# EAGLE library part EP4CE6F17 (library altera-cyclone)
EP4CE6F17 edit this description Auto generated by make-symbol-device-package-bsdl.ulp Rev. 43 Source: EP4CE6F17.bsdl Connect-List generated from IS.DEV Variant X with split-device-symbol.ulp
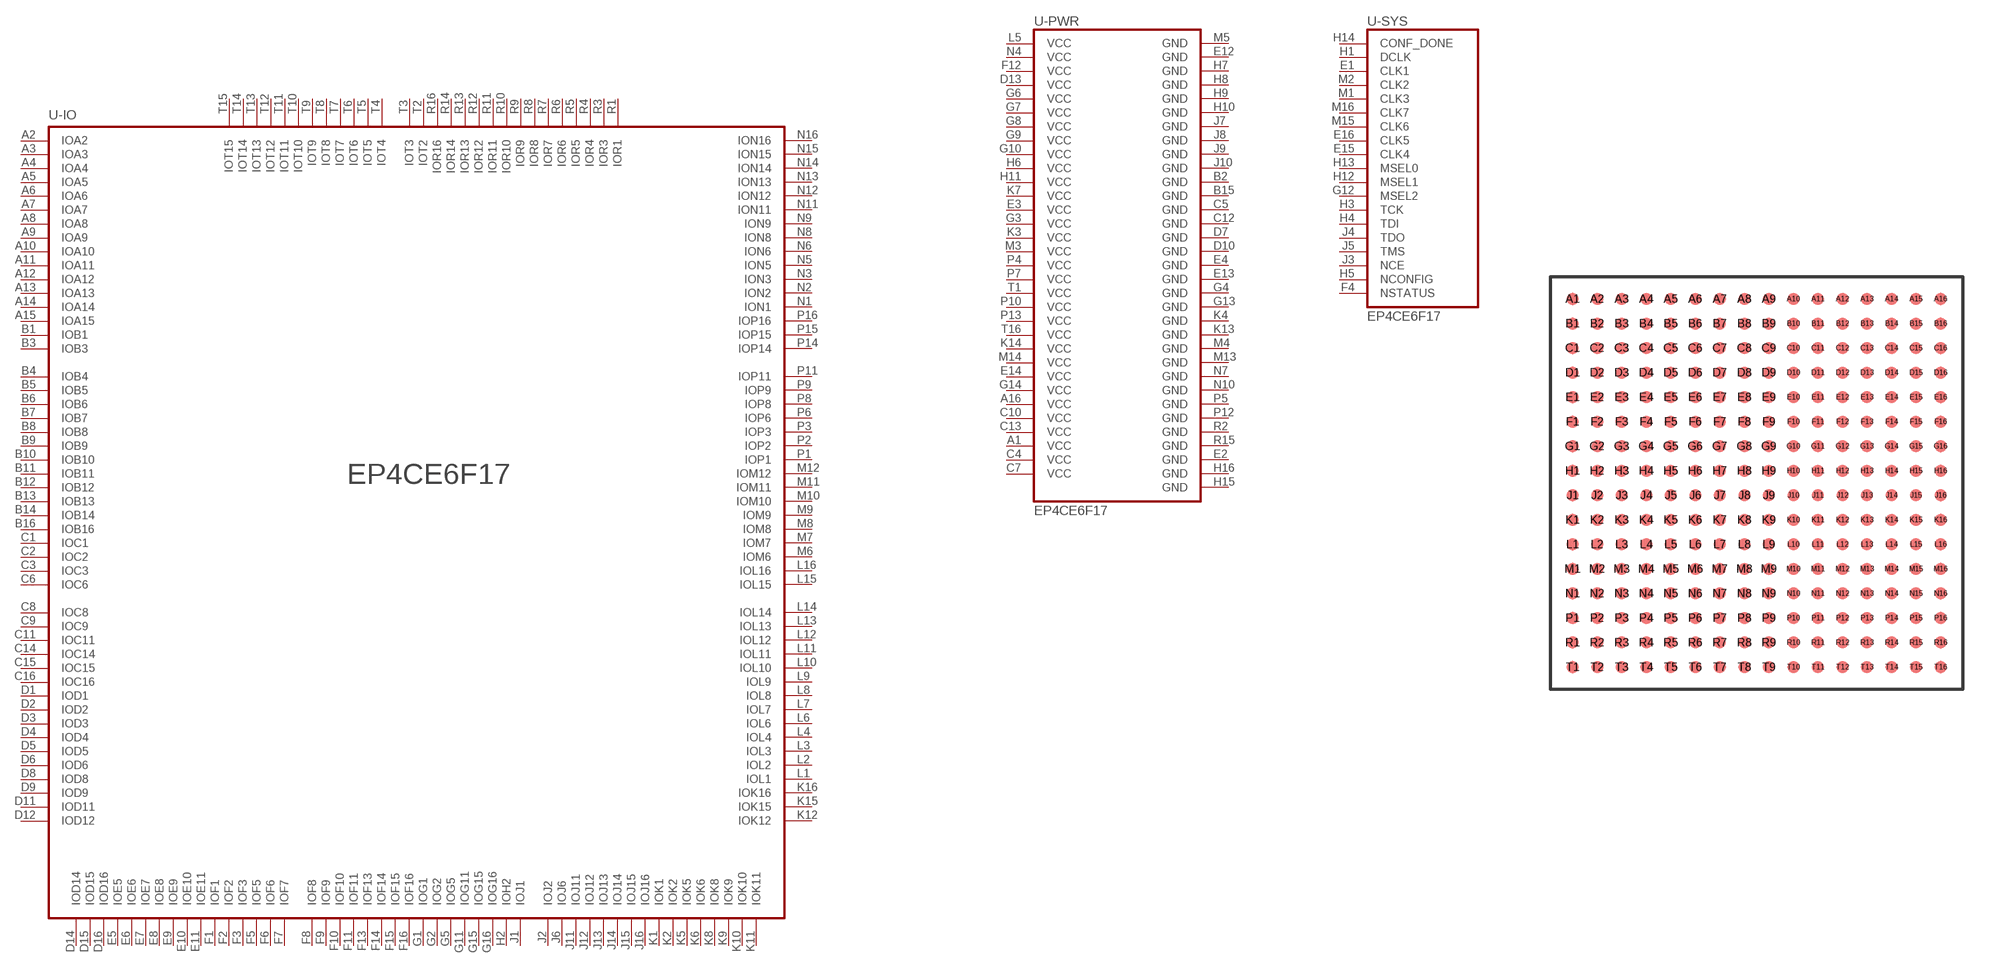
[diagram p3: symbol with the pads of FBGA256; footprint FBGA256]

Designator prefix U; gates -IO=EP4CE6F17_IO -PWR=EP4CE6F17_PWR -SYS=EP4CE6F17_SYS

## EP4CE6F17 (P1I: o)  [FBGA256]
A1  -PWR:VCC  pwr
A2  -IO:IOA2
A3  -IO:IOA3
A4  -IO:IOA4
A5  -IO:IOA5
A6  -IO:IOA6
A7  -IO:IOA7
A8  -IO:IOA8
A9  -IO:IOA9
A10  -IO:IOA10
A11  -IO:IOA11
A12  -IO:IOA12
A13  -IO:IOA13
A14  -IO:IOA14
A15  -IO:IOA15
A16  -PWR:VCC  pwr
B1  -IO:IOB1
B2  -PWR:GND  pwr
B3  -IO:IOB3
B4  -IO:IOB4
B5  -IO:IOB5
B6  -IO:IOB6
B7  -IO:IOB7
B8  -IO:IOB8
B9  -IO:IOB9
B10  -IO:IOB10
B11  -IO:IOB11
B12  -IO:IOB12
B13  -IO:IOB13
B14  -IO:IOB14
B15  -PWR:GND  pwr
B16  -IO:IOB16
C1  -IO:IOC1
C2  -IO:IOC2
C3  -IO:IOC3
C4  -PWR:VCC  pwr
C5  -PWR:GND  pwr
C6  -IO:IOC6
C7  -PWR:VCC  pwr
C8  -IO:IOC8
C9  -IO:IOC9
C10  -PWR:VCC  pwr
C11  -IO:IOC11
C12  -PWR:GND  pwr
C13  -PWR:VCC  pwr
C14  -IO:IOC14
C15  -IO:IOC15
C16  -IO:IOC16
D1  -IO:IOD1
D2  -IO:IOD2
D3  -IO:IOD3
D4  -IO:IOD4
D5  -IO:IOD5
D6  -IO:IOD6
D7  -PWR:GND  pwr
D8  -IO:IOD8
D9  -IO:IOD9
D10  -PWR:GND  pwr
D11  -IO:IOD11
D12  -IO:IOD12
D13  -PWR:VCC  pwr
D14  -IO:IOD14
D15  -IO:IOD15
D16  -IO:IOD16
E1  -SYS:CLK1  pas
E2  -PWR:GND  pwr
E3  -PWR:VCC  pwr
E4  -PWR:GND  pwr
E5  -IO:IOE5
E6  -IO:IOE6
E7  -IO:IOE7
E8  -IO:IOE8
E9  -IO:IOE9
E10  -IO:IOE10
E11  -IO:IOE11
E12  -PWR:GND  pwr
E13  -PWR:GND  pwr
E14  -PWR:VCC  pwr
E15  -SYS:CLK4  pas
E16  -SYS:CLK5  pas
F1  -IO:IOF1
F2  -IO:IOF2
F3  -IO:IOF3
F4  -SYS:NSTATUS  pas
F5  -IO:IOF5
F6  -IO:IOF6
F7  -IO:IOF7
F8  -IO:IOF8
F9  -IO:IOF9
F10  -IO:IOF10
F11  -IO:IOF11
F12  -PWR:VCC  pwr
F13  -IO:IOF13
F14  -IO:IOF14
F15  -IO:IOF15
F16  -IO:IOF16
G1  -IO:IOG1
G2  -IO:IOG2
G3  -PWR:VCC  pwr
G4  -PWR:GND  pwr
G5  -IO:IOG5
G6  -PWR:VCC  pwr
G7  -PWR:VCC  pwr
G8  -PWR:VCC  pwr
G9  -PWR:VCC  pwr
G10  -PWR:VCC  pwr
G11  -IO:IOG11
G12  -SYS:MSEL2  in
G13  -PWR:GND  pwr
G14  -PWR:VCC  pwr
G15  -IO:IOG15
G16  -IO:IOG16
H1  -SYS:DCLK  pas
H2  -IO:IOH2
H3  -SYS:TCK  in
H4  -SYS:TDI  in
H5  -SYS:NCONFIG  pas
H6  -PWR:VCC  pwr
H7  -PWR:GND  pwr
H8  -PWR:GND  pwr
H9  -PWR:GND  pwr
H10  -PWR:GND  pwr
H11  -PWR:VCC  pwr
H12  -SYS:MSEL1  in
H13  -SYS:MSEL0  in
H14  -SYS:CONF_DONE  pas
H15  -PWR:GND  pwr
H16  -PWR:GND  pwr
J1  -IO:IOJ1
J2  -IO:IOJ2
J3  -SYS:NCE  pas
J4  -SYS:TDO  out
J5  -SYS:TMS  in
J6  -IO:IOJ6
J7  -PWR:GND  pwr
J8  -PWR:GND  pwr
J9  -PWR:GND  pwr
J10  -PWR:GND  pwr
J11  -IO:IOJ11
J12  -IO:IOJ12
J13  -IO:IOJ13
J14  -IO:IOJ14
J15  -IO:IOJ15
J16  -IO:IOJ16
K1  -IO:IOK1
K2  -IO:IOK2
K3  -PWR:VCC  pwr
K4  -PWR:GND  pwr
K5  -IO:IOK5
K6  -IO:IOK6
K7  -PWR:VCC  pwr
K8  -IO:IOK8
K9  -IO:IOK9
K10  -IO:IOK10
K11  -IO:IOK11
K12  -IO:IOK12
K13  -PWR:GND  pwr
K14  -PWR:VCC  pwr
K15  -IO:IOK15
K16  -IO:IOK16
L1  -IO:IOL1
L2  -IO:IOL2
L3  -IO:IOL3
L4  -IO:IOL4
L5  -PWR:VCC  pwr
L6  -IO:IOL6
L7  -IO:IOL7
L8  -IO:IOL8
L9  -IO:IOL9
L10  -IO:IOL10
L11  -IO:IOL11
L12  -IO:IOL12
L13  -IO:IOL13
L14  -IO:IOL14
L15  -IO:IOL15
L16  -IO:IOL16
M1  -SYS:CLK3  pas
M2  -SYS:CLK2  pas
M3  -PWR:VCC  pwr
M4  -PWR:GND  pwr
M5  -PWR:GND  pwr
M6  -IO:IOM6
M7  -IO:IOM7
M8  -IO:IOM8
M9  -IO:IOM9
M10  -IO:IOM10
M11  -IO:IOM11
M12  -IO:IOM12
M13  -PWR:GND  pwr
M14  -PWR:VCC  pwr
M15  -SYS:CLK6  pas
M16  -SYS:CLK7  pas
N1  -IO:ION1
N2  -IO:ION2
N3  -IO:ION3
N4  -PWR:VCC  pwr
N5  -IO:ION5
N6  -IO:ION6
N7  -PWR:GND  pwr
N8  -IO:ION8
N9  -IO:ION9
N10  -PWR:GND  pwr
N11  -IO:ION11
N12  -IO:ION12
N13  -IO:ION13
N14  -IO:ION14
N15  -IO:ION15
N16  -IO:ION16
P1  -IO:IOP1
P2  -IO:IOP2
P3  -IO:IOP3
P4  -PWR:VCC  pwr
P5  -PWR:GND  pwr
P6  -IO:IOP6
P7  -PWR:VCC  pwr
P8  -IO:IOP8
P9  -IO:IOP9
P10  -PWR:VCC  pwr
P11  -IO:IOP11
P12  -PWR:GND  pwr
P13  -PWR:VCC  pwr
P14  -IO:IOP14
P15  -IO:IOP15
P16  -IO:IOP16
R1  -IO:IOR1
R2  -PWR:GND  pwr
R3  -IO:IOR3
R4  -IO:IOR4
R5  -IO:IOR5
R6  -IO:IOR6
R7  -IO:IOR7
R8  -IO:IOR8
R9  -IO:IOR9
R10  -IO:IOR10
R11  -IO:IOR11
R12  -IO:IOR12
R13  -IO:IOR13
R14  -IO:IOR14
R15  -PWR:GND  pwr
R16  -IO:IOR16
T1  -PWR:VCC  pwr
T2  -IO:IOT2
T3  -IO:IOT3
T4  -IO:IOT4
T5  -IO:IOT5
T6  -IO:IOT6
T7  -IO:IOT7
T8  -IO:IOT8
T9  -IO:IOT9
T10  -IO:IOT10
T11  -IO:IOT11
T12  -IO:IOT12
T13  -IO:IOT13
T14  -IO:IOT14
T15  -IO:IOT15
T16  -PWR:VCC  pwr

## Footprint FBGA256 (pad centres in mm)
EP4CE6F17 edit this description Auto generated by make-symbol-device-package-bsdl.ulp Rev. 43 Source: EP4CE6F17.bsdl
smd 0.5 x 0.5: A1 -7.5,7.5; A2 -6.5,7.5; A3 -5.5,7.5; A4 -4.5,7.5; A5 -3.5,7.5; A6 -2.5,7.5; A7 -1.5,7.5; A8 -0.5,7.5; A9 0.5,7.5; A10 1.5,7.5; A11 2.5,7.5; A12 3.5,7.5; A13 4.5,7.5; A14 5.5,7.5; A15 6.5,7.5; A16 7.5,7.5; B1 -7.5,6.5; B2 -6.5,6.5; B3 -5.5,6.5; B4 -4.5,6.5; B5 -3.5,6.5; B6 -2.5,6.5; B7 -1.5,6.5; B8 -0.5,6.5; B9 0.5,6.5; B10 1.5,6.5; B11 2.5,6.5; B12 3.5,6.5; B13 4.5,6.5; B14 5.5,6.5; B15 6.5,6.5; B16 7.5,6.5; C1 -7.5,5.5; C2 -6.5,5.5; C3 -5.5,5.5; C4 -4.5,5.5; C5 -3.5,5.5; C6 -2.5,5.5; C7 -1.5,5.5; C8 -0.5,5.5; C9 0.5,5.5; C10 1.5,5.5; C11 2.5,5.5; C12 3.5,5.5; C13 4.5,5.5; C14 5.5,5.5; C15 6.5,5.5; C16 7.5,5.5; D1 -7.5,4.5; D2 -6.5,4.5; D3 -5.5,4.5; D4 -4.5,4.5; D5 -3.5,4.5; D6 -2.5,4.5; D7 -1.5,4.5; D8 -0.5,4.5; D9 0.5,4.5; D10 1.5,4.5; D11 2.5,4.5; D12 3.5,4.5; D13 4.5,4.5; D14 5.5,4.5; D15 6.5,4.5; D16 7.5,4.5; E1 -7.5,3.5; E2 -6.5,3.5; E3 -5.5,3.5; E4 -4.5,3.5; E5 -3.5,3.5; E6 -2.5,3.5; E7 -1.5,3.5; E8 -0.5,3.5; E9 0.5,3.5; E10 1.5,3.5; E11 2.5,3.5; E12 3.5,3.5; E13 4.5,3.5; E14 5.5,3.5; E15 6.5,3.5; E16 7.5,3.5; F1 -7.5,2.5; F2 -6.5,2.5; F3 -5.5,2.5; F4 -4.5,2.5; F5 -3.5,2.5; F6 -2.5,2.5; F7 -1.5,2.5; F8 -0.5,2.5; F9 0.5,2.5; F10 1.5,2.5; F11 2.5,2.5; F12 3.5,2.5; F13 4.5,2.5; F14 5.5,2.5; F15 6.5,2.5; F16 7.5,2.5; G1 -7.5,1.5; G2 -6.5,1.5; G3 -5.5,1.5; G4 -4.5,1.5; G5 -3.5,1.5; G6 -2.5,1.5; G7 -1.5,1.5; G8 -0.5,1.5; G9 0.5,1.5; G10 1.5,1.5; G11 2.5,1.5; G12 3.5,1.5; G13 4.5,1.5; G14 5.5,1.5; G15 6.5,1.5; G16 7.5,1.5; H1 -7.5,0.5; H2 -6.5,0.5; H3 -5.5,0.5; H4 -4.5,0.5; H5 -3.5,0.5; H6 -2.5,0.5; H7 -1.5,0.5; H8 -0.5,0.5; H9 0.5,0.5; H10 1.5,0.5; H11 2.5,0.5; H12 3.5,0.5; H13 4.5,0.5; H14 5.5,0.5; H15 6.5,0.5; H16 7.5,0.5; J1 -7.5,-0.5; J2 -6.5,-0.5; J3 -5.5,-0.5; J4 -4.5,-0.5; J5 -3.5,-0.5; J6 -2.5,-0.5; J7 -1.5,-0.5; J8 -0.5,-0.5; J9 0.5,-0.5; J10 1.5,-0.5; J11 2.5,-0.5; J12 3.5,-0.5; J13 4.5,-0.5; J14 5.5,-0.5; J15 6.5,-0.5; J16 7.5,-0.5; K1 -7.5,-1.5; K2 -6.5,-1.5; K3 -5.5,-1.5; K4 -4.5,-1.5; K5 -3.5,-1.5; K6 -2.5,-1.5; K7 -1.5,-1.5; K8 -0.5,-1.5; K9 0.5,-1.5; K10 1.5,-1.5; K11 2.5,-1.5; K12 3.5,-1.5; K13 4.5,-1.5; K14 5.5,-1.5; K15 6.5,-1.5; K16 7.5,-1.5; L1 -7.5,-2.5; L2 -6.5,-2.5; L3 -5.5,-2.5; L4 -4.5,-2.5; L5 -3.5,-2.5; L6 -2.5,-2.5; L7 -1.5,-2.5; L8 -0.5,-2.5; L9 0.5,-2.5; L10 1.5,-2.5; L11 2.5,-2.5; L12 3.5,-2.5; L13 4.5,-2.5; L14 5.5,-2.5; L15 6.5,-2.5; L16 7.5,-2.5; M1 -7.5,-3.5; M2 -6.5,-3.5; M3 -5.5,-3.5; M4 -4.5,-3.5; M5 -3.5,-3.5; M6 -2.5,-3.5; M7 -1.5,-3.5; M8 -0.5,-3.5; M9 0.5,-3.5; M10 1.5,-3.5; M11 2.5,-3.5; M12 3.5,-3.5; M13 4.5,-3.5; M14 5.5,-3.5; M15 6.5,-3.5; M16 7.5,-3.5; N1 -7.5,-4.5; N2 -6.5,-4.5; N3 -5.5,-4.5; N4 -4.5,-4.5; N5 -3.5,-4.5; N6 -2.5,-4.5; N7 -1.5,-4.5; N8 -0.5,-4.5; N9 0.5,-4.5; N10 1.5,-4.5; N11 2.5,-4.5; N12 3.5,-4.5; N13 4.5,-4.5; N14 5.5,-4.5; N15 6.5,-4.5; N16 7.5,-4.5; P1 -7.5,-5.5; P2 -6.5,-5.5; P3 -5.5,-5.5; P4 -4.5,-5.5; P5 -3.5,-5.5; P6 -2.5,-5.5; P7 -1.5,-5.5; P8 -0.5,-5.5; P9 0.5,-5.5; P10 1.5,-5.5; P11 2.5,-5.5; P12 3.5,-5.5; P13 4.5,-5.5; P14 5.5,-5.5; P15 6.5,-5.5; P16 7.5,-5.5; R1 -7.5,-6.5; R2 -6.5,-6.5; R3 -5.5,-6.5; R4 -4.5,-6.5; R5 -3.5,-6.5; R6 -2.5,-6.5; R7 -1.5,-6.5; R8 -0.5,-6.5; R9 0.5,-6.5; R10 1.5,-6.5; R11 2.5,-6.5; R12 3.5,-6.5; R13 4.5,-6.5; R14 5.5,-6.5; R15 6.5,-6.5; R16 7.5,-6.5; T1 -7.5,-7.5; T2 -6.5,-7.5; T3 -5.5,-7.5; T4 -4.5,-7.5; T5 -3.5,-7.5; T6 -2.5,-7.5; T7 -1.5,-7.5; T8 -0.5,-7.5; T9 0.5,-7.5; T10 1.5,-7.5; T11 2.5,-7.5; T12 3.5,-7.5; T13 4.5,-7.5; T14 5.5,-7.5; T15 6.5,-7.5; T16 7.5,-7.5